# Altium footprint library czc.PcbLib: 157 footprints (part 3 of 10)
Each footprint in its own frame and in the unit in brackets; x right, y up, seen from the top. Pads: shape width x height; smd on the part's side, far side on the other; paste and mask are expansions set on the pad; w line width, h text height; cw(c..) or ccw(c..) is an arc to the next point about the centre after c.
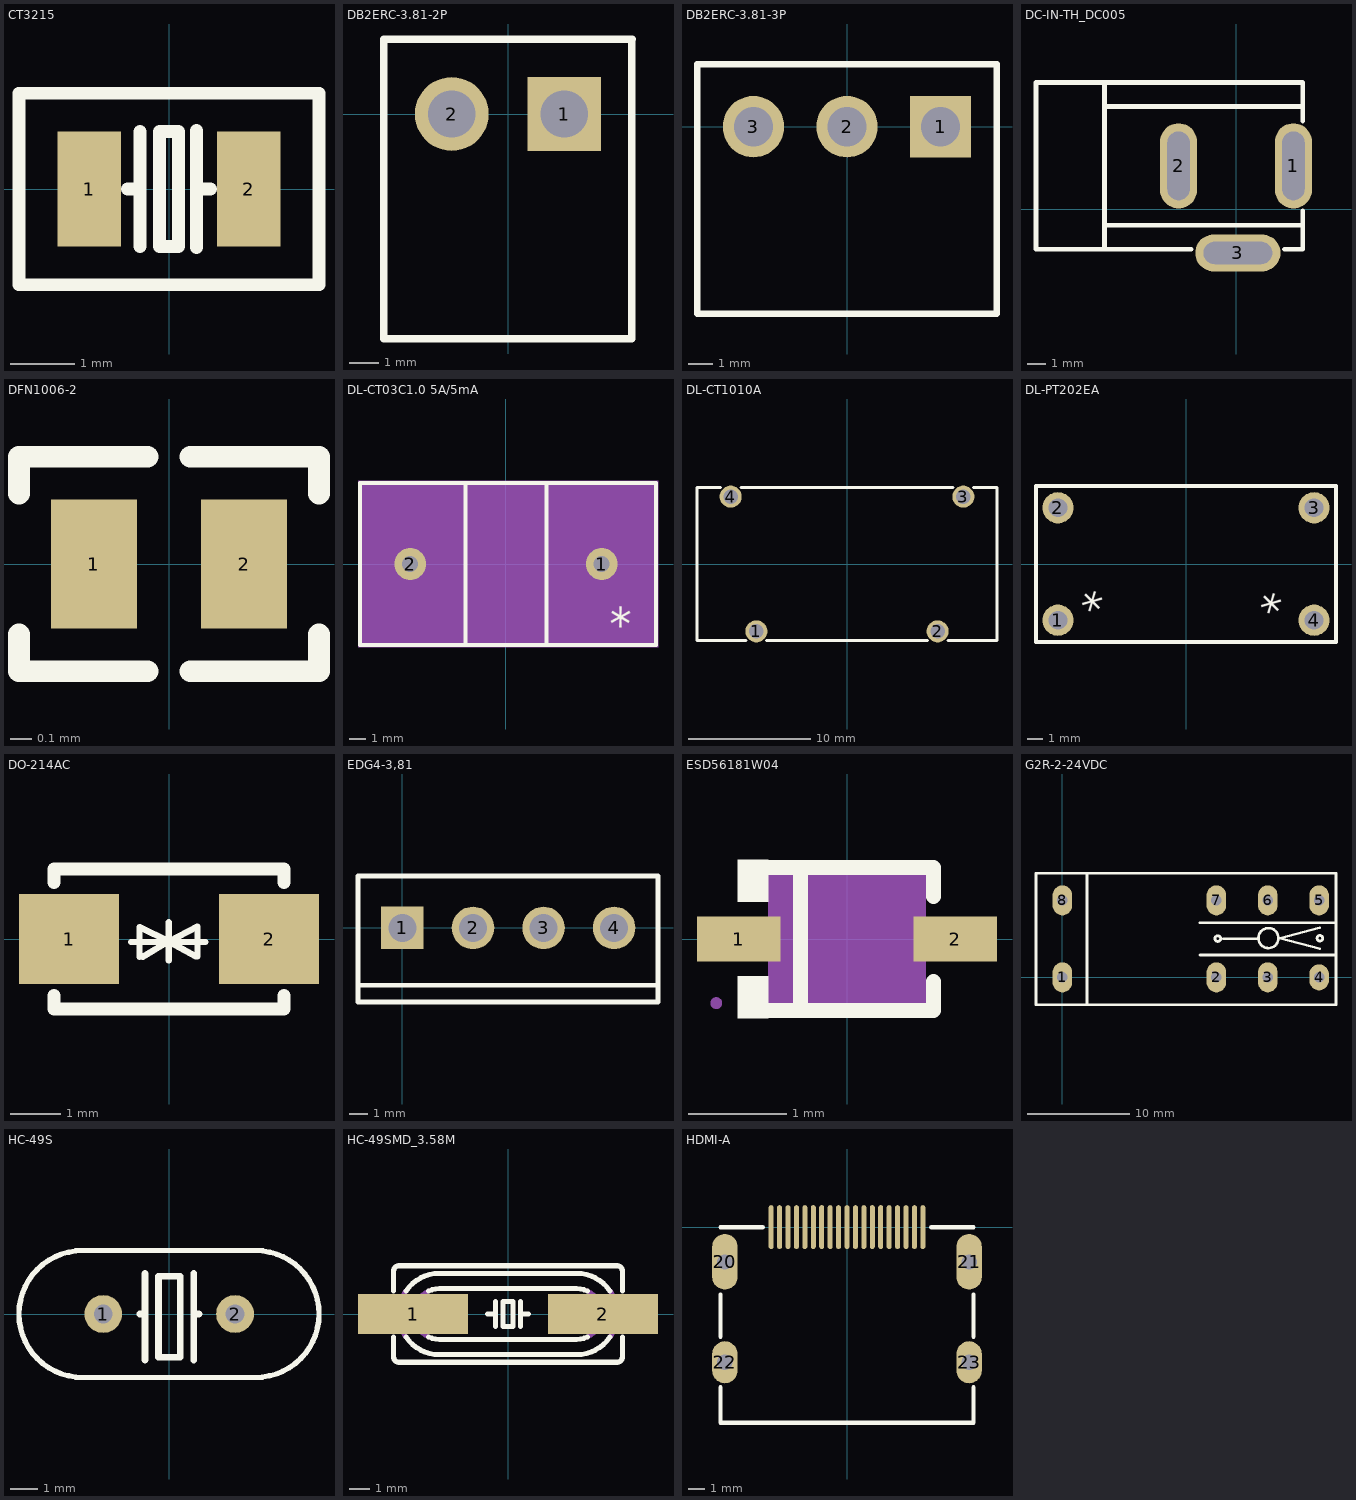
[diagram p2: the footprints below, top view; thin cyan lines are the x and y axes]

## CT3215 [mm]
pads (2):
  rect 1x1.8 smd: 1(-1.25,0) 2(1.25,0)
Top Overlay:
  lines w0.2: -2.35,-1.5 2.35,-1.5 2.35,1.5 -2.35,1.5 -2.35,0 -2.35,-1.5
  lines w0.203: -0.652,0 -0.452,0 ; -0.452,-0.9 -0.452,0.9 ; 0.432,-0.914 0.432,0.914 ; 0.448,0 0.648,0 ; -0.152,-0.9 -0.152,0.9 0.148,0.9 0.148,-0.9 -0.152,-0.9

## DB2ERC-3.81-2P [mm]
pads (2):
  rect 2.5x2.5 hole 1.6: 1(1.905,0)
  round 2.5 hole 1.6: 2(-1.905,0)
Top Overlay:
  lines w0.254: 4.191,2.54 4.191,-7.62 -4.205,-7.62 -4.205,2.54 4.205,2.54

## DB2ERC-3.81-3P [mm]
pads (3):
  rect 2.5x2.5 hole 1.6: 1(3.81,0)
  round 2.5 hole 1.6: 2(0,0) 3(-3.81,0)
Top Overlay:
  lines w0.254: -6.11,2.54 6.11,2.54 ; -6.096,2.54 -6.096,-7.62 6.096,-7.62 6.096,2.54

## DC-IN-TH_DC005 [mm]
pads (3):
  oval 2x4.6 hole 1.2 slot 3.7 at 90 deg: 1(3.1,2.35) 2(-3.1,2.35)
  oval 4.6x2 hole 1.2 slot 3.7 at 0 deg: 3(0.1,-2.35)
Top Overlay:
  lines w0.254: -7.1,-2.15 -7.1,6.85 ; -7.019,-0.85 3.601,-0.85 ; -7.019,5.55 3.601,5.55 ; -2.415,-2.15 -10.8,-2.15 -10.8,6.85 3.601,6.85 3.601,4.775 ; 2.615,-2.15 3.601,-2.15 3.601,-0.074

## Demo [mm]

## DFN1006-2 [mm]
pads (2):
  rect 0.4x0.6 smd: 1(-0.35,0) 2(0.35,0)
Top Overlay:
  lines w0.102: -0.7,-0.329 -0.7,-0.5 -0.1,-0.5 ; -0.7,0.329 -0.7,0.5 -0.1,0.5 ; 0.1,-0.5 0.7,-0.5 0.7,-0.33 ; 0.1,0.5 0.7,0.5 0.7,0.33

## DL-CT03C1.0 5A/5mA [mm]
pads (2):
  round 2 hole 1: 1(5.999,0) 2(-5.999,0)
Top Overlay:
  lines w0.254: -2.54,-5.08 -2.54,5.08 ; 2.54,-5.08 2.54,5.08 ; -9.144,-5.08 9.398,-5.08 9.398,5.08 -9.144,5.08 -9.144,-5.08
  text "*" at 6.317,-1.991 h2.03
Mechanical 4:
  region: -9.271,5.207 9.525,5.207 9.525,-5.207 -9.271,-5.207
Mechanical 5:
  region: 4.999,1 6.999,1 6.999,-1 4.999,-1
  region: -6.999,1 -4.999,1 -4.999,-1 -6.999,-1

## DL-CT1010A [mm]
pads (4):
  round 1.8 hole 1.2: 1(-7.4,-5.5) 2(7.4,-5.5) 3(9.5,5.5) 4(-9.5,5.5)
Top Overlay:
  lines w0.254: -10.346,6.25 -12.25,6.25 -12.25,-6.25 -8.246,-6.25 ; -8.654,6.25 8.654,6.25 ; -6.554,-6.25 6.554,-6.25 ; 8.246,-6.25 12.25,-6.25 12.25,6.25 10.346,6.25

## DL-PT202EA [mm]
pads (4):
  round 2 hole 1.2: 1(-8.199,-3.599) 2(-8.199,3.599) 3(8.199,3.599) 4(8.199,-3.599)
Top Overlay:
  lines w0.254: -9.6,-5 -9.6,5 9.6,5 9.6,-5 -9.6,-5
  text "*" at -5.476,-3.889 h2.03
  text "*" at 5.954,-4.015 h2.03

## DO-214AC [mm]
pads (2):
  rect 2x1.8 smd: 1(-2,0) 2(2,0)
Top Overlay:
  lines w0.127: -0.76,-0.06 0.73,-0.06 ; -0.59,-0.36 -0.59,0.24 -0.002,-0.049 ; -0.53,-0.36 -0.002,-0.049 ; -0.002,-0.43 -0.002,-0.049 ; -0.002,0.332 -0.002,-0.049 ; 0.54,-0.35 -0.002,-0.049 ; 0.57,-0.35 0.57,0.25 -0.002,-0.049
  lines w0.254: -2.3,-1.131 -2.3,-1.4 2.3,-1.4 2.3,-1.131 ; -2.3,1.131 -2.3,1.4 2.3,1.4 2.3,1.131

## EDG4-3,81 [mm]
pads (4):
  rect 2.3x2.3 hole 1.5: 1(0,0)
  round 2.3 hole 1.5: 2(3.81,0) 3(7.62,0) 4(11.43,0)
Top Overlay:
  lines w0.254: -2.286,-3.1 13.8,-3.1 ; 13.8,-4 -2.4,-4 -2.4,2.8 13.8,2.8 ; 13.8,-3.937 13.8,2.794

## ESD56181W04 [mm]
pads (2):
  rect 0.845x0.455 smd: 1(-1.098,0) 2(1.098,0)
Top Overlay:
  region: -0.8,0.802 -0.8,0.38 -1.105,0.38 -1.105,0.802
  region: -0.8,-0.802 -0.8,-0.38 -1.105,-0.38 -1.105,-0.802
  lines w0.152: -0.876,-0.726 0.876,-0.726 0.876,-0.431 ; -0.876,0.726 0.876,0.726 0.876,0.431 ; -0.472,-0.726 -0.472,0.726
Mechanical 4:
  region: -0.8,-0.65 -0.8,0.65 0.8,0.65 0.8,-0.65
Mechanical 5:
  region: -1.325,-0.163 -1.325,0.163 -1,0.163 -1,-0.163
  pour cut-out: -0.79,-0.163 -0.79,0.163 -1.01,0.163 -1.01,-0.163
  region: 1.325,-0.163 1.325,0.163 1,0.163 1,-0.163
  pour cut-out: 0.79,-0.163 0.79,0.163 1.01,0.163 1.01,-0.163
Mechanical 6:
  circle w0.06: c-1.325,-0.65 r0.03
Mechanical 15:
  region: -0.644,0.078 -0.644,-0.078 -0.02,-0.078 -0.02,0.078
  region: 0.644,0.078 0.644,-0.078 0.02,-0.078 0.02,0.078
  region: 0.41,0.52 0.41,-0.52 0.254,-0.52 0.254,0.52

## G2R-2-24VDC [mil]
pads (8):
  oval 75x115 hole 40: 1(0,0) 2(590.55,0) 3(787.4,0) 5(984.25,295.28) 6(787.4,295.28) 7(590.55,295.28) 8(0,295.28)
  oval 75x100 hole 40: 4(984.25,0)
Top Overlay:
  circle w10: c790.13,150.64 r38.48
  circle w10: c595.66,148.64 r10.97
  circle w10: c987.13,150.14 r10.97
  lines w10: 94.13,-104.86 94.13,399.14 ; 177.13,-104.86 1049.13,-104.86 1049.13,399.14 -101.37,399.14 -101.37,-104.86 184.63,-104.86 ; 527.63,85.64 1049.13,85.64 1049.13,209.64 527.63,209.64 ; 616.63,148.64 749.13,148.64 ; 986.63,189.64 833.63,150.64 987.13,110.14
3D body "继电器-3d.step": height 618.11, standoff -141.73, extent -95,-105 1046.73,395

## HC-49S [mm]
pads (2):
  round 1.4 hole 0.7: 1(-2.44,0) 2(2.44,0)
Top Overlay:
  lines w0.2: 3.191,-2.35 ccw(c3.201,0) 3.2,2.35 -3.2,2.35 ccw(c-3.21,0) -3.2,-2.35 3.2,-2.35
  lines w0.254: -1.089,0 -0.889,0 ; -0.889,-1.7 -0.889,1.5 ; 0.911,-1.7 0.911,1.5 ; 0.911,0 1.111,0 ; -0.389,-1.6 -0.389,1.4 0.411,1.4 0.411,-1.6 -0.389,-1.6
3D body "User Library-HC49S-1.STEP": height 3.6, standoff -3, extent -5.519,-2.205 5.461,2.286

## HC-49SMD_3.58M [mm]
pads (2):
  rect 5.5x2 smd: 1(-4.75,0) 2(4.75,0)
Top Overlay:
  lines w0.254: -5.715,-1.143 -5.715,-2.159 ccw(c-5.461,-2.159) -5.461,-2.413 5.461,-2.413 ccw(c5.461,-2.159) 5.715,-2.159 5.715,-1.143 ; -5.715,1.143 -5.715,2.159 cw(c-5.461,2.159) -5.461,2.413 5.461,2.413 cw(c5.461,2.159) 5.715,2.159 5.715,1.143 ; -5.109,-1.143 ccw(c-3.429,0) -3.429,-2.032 3.429,-2.032 ccw(c3.429,0) 5.109,-1.143 ; -5.109,1.143 cw(c-3.429,0) -3.429,2.032 3.429,2.032 cw(c3.429,0) 5.109,1.143 ; -3.983,-1.143 ccw(c-3.429,0) -3.429,-1.27 3.429,-1.27 ccw(c3.429,0) 3.983,-1.143 ; -3.983,1.143 cw(c-3.429,0) -3.429,1.27 3.429,1.27 cw(c3.429,0) 3.983,1.143 ; -1.016,0 -0.635,0 ; -0.635,-0.635 -0.635,0 ; -0.635,0.635 -0.635,0 ; 0.635,-0.635 0.635,0 ; 0.635,0.635 0.635,0 ; 1.016,0 0.635,0 ; -0.254,-0.635 -0.254,0.635 0.254,0.635 0.254,-0.635 -0.254,-0.635
Mechanical 15:
  lines w0.254: -6.477,0.381 -6.477,-0.381 -5.715,-0.381 ; -5.109,-1.143 cw(c-3.429,0) -5.109,1.143 ; -3.983,-1.143 cw(c-3.429,0) -3.983,1.143 ; 3.983,-1.143 ccw(c3.429,0) 3.983,1.143 ; 5.109,-1.143 ccw(c3.429,0) 5.109,1.143

## HDMI-A [mm]
pads (23):
  oval 0.3x2.6 smd: 1(4.5,0) 2(4,0) 3(3.5,0) 4(3,0) 5(2.5,0) 6(2,0) 7(1.5,0) 8(1,0) 9(0.5,0) 10(0,0) 11(-0.5,0) 12(-1,0) 13(-1.5,0) 14(-2,0) 15(-2.5,0) 16(-3,0) 17(-3.5,0) 18(-4,0) 19(-4.5,0)
  oval 1.5x3.3 hole 0.9: 20(-7.25,-2.06) 21(7.25,-2.06)
  oval 1.5x2.5 hole 0.9: 22(-7.25,-8.02) 23(7.25,-8.02)
Top Overlay:
  lines w0.254: -7.5,-9.5 -7.5,-11.61 7.5,-11.61 7.5,-9.5 ; -7.5,-6.5 -7.5,-4 ; -7.5,0 -5,0 ; 5,0 7.5,0 ; 7.5,-6.5 7.5,-4